# EAGLE library part GALAGO-040A (library Outbreak-v0)
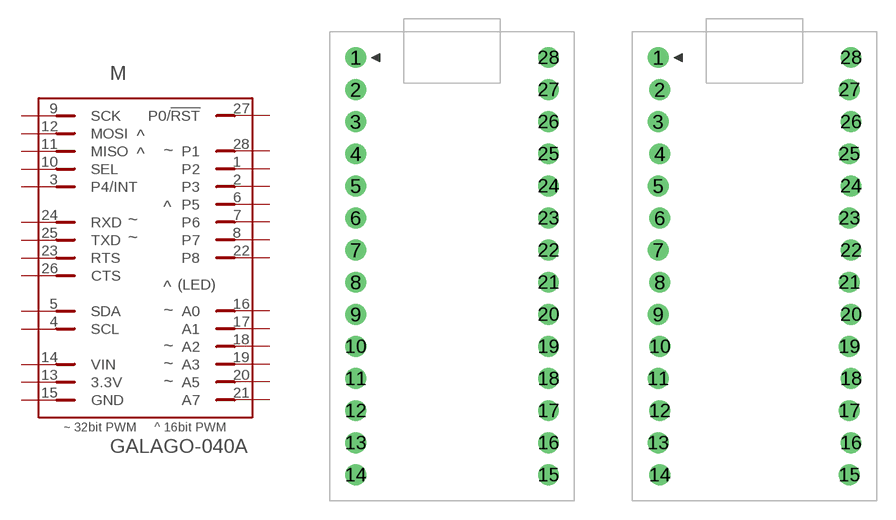
[diagram p0: symbol with the pads of GALAGO; footprints GALAGO, GALAGO-LOCKING]

Designator prefix M

## GALAGO-040A  [GALAGO]
1  P2
2  P3
3  P4/INT
4  SCL
5  SDA
6  P5
7  P6
8  P7
9  SCK
10  SEL
11  MISO
12  MOSI
13  3.3V
14  VIN
15  GND
16  A0
17  A1
18  A2
19  A3
20  A5
21  A7
22  P8
23  RTS
24  RXD
25  TXD
26  CTS
27  P0/!RST
28  P1

## GALAGO-040A-LOCKING  [GALAGO-LOCKING]
Pads as for GALAGO

## Footprint GALAGO (pad centres in mm)
drill 0.9 pad 1.651 round: 1 -7.62,16.51; 2 -7.62,13.97; 3 -7.62,11.43; 4 -7.62,8.89; 5 -7.62,6.35; 6 -7.62,3.81; 7 -7.62,1.27; 8 -7.62,-1.27; 9 -7.62,-3.81; 10 -7.62,-6.35; 11 -7.62,-8.89; 12 -7.62,-11.43; 13 -7.62,-13.97; 14 -7.62,-16.51; 15 7.62,-16.51; 16 7.62,-13.97; 17 7.62,-11.43; 18 7.62,-8.89; 19 7.62,-6.35; 20 7.62,-3.81; 21 7.62,-1.27; 22 7.62,1.27; 23 7.62,3.81; 24 7.62,6.35; 25 7.62,8.89; 26 7.62,11.43; 27 7.62,13.97; 28 7.62,16.51

## Footprint GALAGO-LOCKING (pad centres in mm)
drill 0.9 pad 1.651 round: 1 -7.62,16.51; 2 -7.493,13.97; 3 -7.62,11.43; 4 -7.493,8.89; 5 -7.62,6.35; 6 -7.493,3.81; 7 -7.62,1.27; 8 -7.493,-1.27; 9 -7.62,-3.81; 10 -7.493,-6.35; 11 -7.62,-8.89; 12 -7.493,-11.43; 13 -7.62,-13.97; 14 -7.493,-16.51; 15 7.493,-16.51; 16 7.62,-13.97; 17 7.493,-11.43; 18 7.62,-8.89; 19 7.493,-6.35; 20 7.62,-3.81; 21 7.493,-1.27; 22 7.62,1.27; 23 7.493,3.81; 24 7.62,6.35; 25 7.493,8.89; 26 7.62,11.43; 27 7.493,13.97; 28 7.62,16.51